# Altium schematic symbol library LQM21DN4R7N00D.SchLib: 1 symbol
Pins are listed as number, name and electrical type; pins without a type are passive.

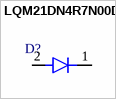
[diagram p0: symbol LQM21DN4R7N00D]

## LQM21DN4R7N00D
designator D?
= Description
pins: 1, 2